# EAGLE library part LTC6102 (library borkedlabs-powerics)
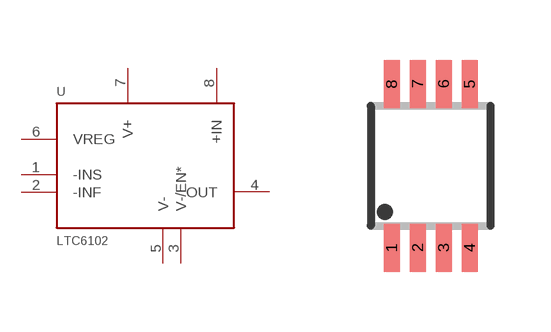
[diagram p2: symbol with the pads of MSOP8; footprint MSOP8]

Designator prefix U

## LTC6102*MS8  [MSOP8]
1  -INS
2  -INF
3  V-/EN*
4  OUT
5  V-
6  VREG
7  V+
8  +IN

## Footprint MSOP8 (pad centres in mm)
MSOP8
smd 0.4 x 1.2: 1 -0.975,-2.05; 2 -0.325,-2.05; 3 0.325,-2.05; 4 0.975,-2.05; 5 0.975,2.05; 6 0.325,2.05; 7 -0.325,2.05; 8 -0.975,2.05